# Altium schematic symbol library CR2032.SchLib: 1 symbol
Pins are listed as number, name and electrical type; pins without a type are passive.

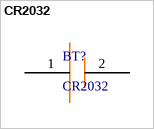
[diagram p0: symbol CR2032]

## CR2032
designator BT?
footprint CR2032-R
pins: 1 +, 2 -